# Altium footprint library MPU-9250.PCBLIB: 1 footprints
Each footprint in its own frame and in the unit in brackets; x right, y up, seen from the top. Pads: shape width x height; smd on the part's side, far side on the other; paste and mask are expansions set on the pad; w line width, h text height; cw(c..) or ccw(c..) is an arc to the next point about the centre after c.
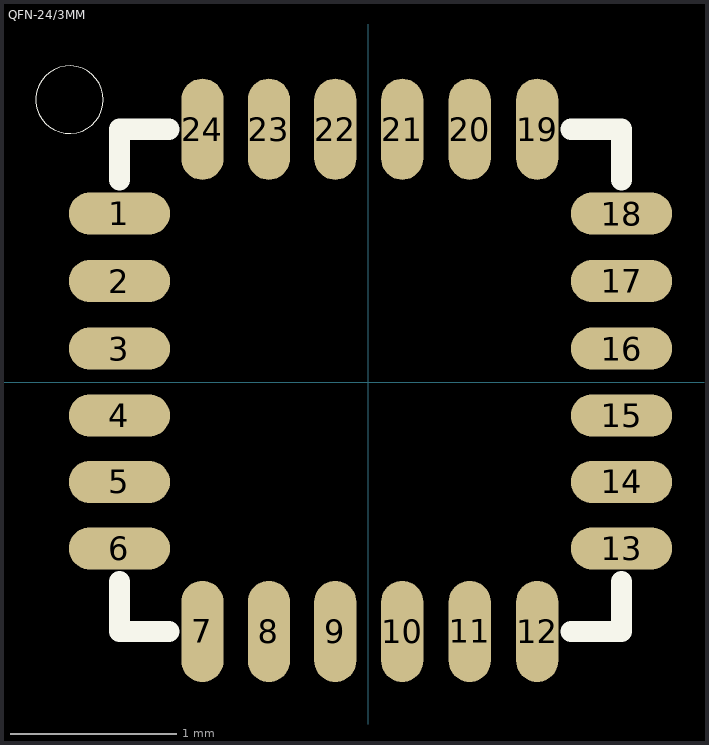
[diagram p0: the footprint, top view; thin cyan lines are the x and y axes]

## QFN-24/3MM [mil]
pads (24):
  rrect100% 24x10 smd: 1(-59.06,40) 2(-59.06,24) 3(-59.06,8) 4(-59.06,-7.87) 5(-59.06,-23.62) 6(-59.06,-39.37) 13(60,-39.37) 14(60,-23.62) 15(60,-7.87) 16(60,8) 17(60,24) 18(60,40)
  rrect100% 10x24 smd: 7(-39.37,-59.06) 8(-23.62,-59.06) 9(-7.87,-59.06) 10(8,-59.06) 11(24,-59.06) 12(40,-59.06) 19(40,60) 20(24,60) 21(8,60) 22(-7.87,60) 23(-23.62,60) 24(-39.37,60)
Top Overlay:
  circle w0: c-70.87,67 r8
  lines w5: -59.06,-47.24 -59.06,-59.06 -47.24,-59.06 ; -59.06,48 -59.06,60 -47.24,60 ; 48,-59.06 60,-59.06 60,-47.24 ; 48,60 60,60 60,48
3D body: height 35.43, standoff 0, extent -59.1,-59.09 59.09,59.1